# EAGLE library part LECTURE_EXAMPLE (library Ilya_Teach)
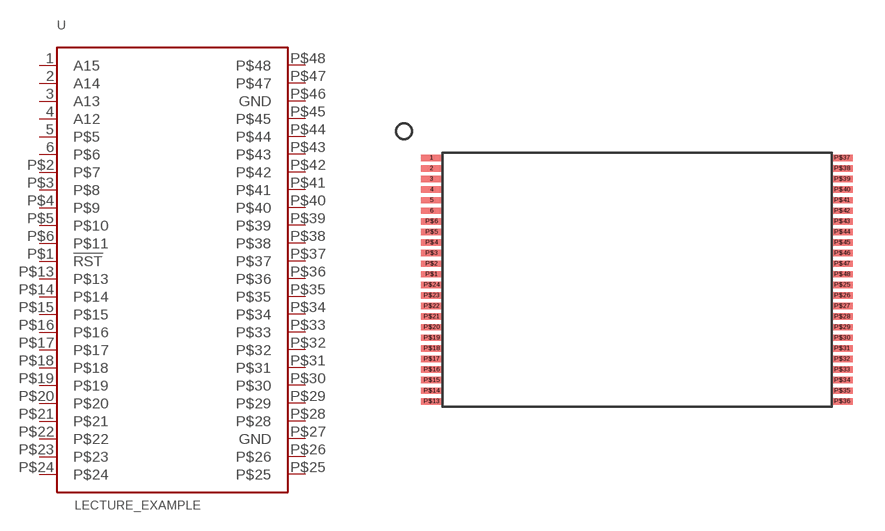
[diagram p19: symbol with the pads of LECTURE_EXAMPLE; footprint LECTURE_EXAMPLE]

Designator prefix -

## LECTURE_EXAMPLEA  [LECTURE_EXAMPLE]
1  A15
2  A14
3  A13
4  A12
5  P$5
6  P$6
P$1  !RST
P$2  P$7
P$3  P$8
P$4  P$9
P$5  P$10
P$6  P$11
P$13  P$13
P$14  P$14
P$15  P$15
P$16  P$16
P$17  P$17
P$18  P$18
P$19  P$19
P$20  P$20
P$21  P$21
P$22  P$22
P$23  P$23
P$24  P$24
P$25  P$25
P$26  P$26
P$27  GND
P$28  P$28
P$29  P$29
P$30  P$30
P$31  P$31
P$32  P$32
P$33  P$33
P$34  P$34
P$35  P$35
P$36  P$36
P$37  P$37
P$38  P$38
P$39  P$39
P$40  P$40
P$41  P$41
P$42  P$42
P$43  P$43
P$44  P$44
P$45  P$45
P$46  GND
P$47  P$47
P$48  P$48

## Footprint LECTURE_EXAMPLE (pad centres in mm)
This is the board I made during lecture.
smd 1 x 0.3: 1 -9.7,5.75; 2 -9.7,5.25; 3 -9.7,4.75; 4 -9.7,4.25; 5 -9.7,3.75; 6 -9.7,3.25; P$1 -9.7,0.25; P$2 -9.7,0.75; P$3 -9.7,1.25; P$4 -9.7,1.75; P$5 -9.7,2.25; P$6 -9.7,2.75; P$13 -9.7,-5.75; P$14 -9.7,-5.25; P$15 -9.7,-4.75; P$16 -9.7,-4.25; P$17 -9.7,-3.75; P$18 -9.7,-3.25; P$19 -9.7,-2.75; P$20 -9.7,-2.25; P$21 -9.7,-1.75; P$22 -9.7,-1.25; P$23 -9.7,-0.75; P$24 -9.7,-0.25; P$25 9.7,-0.25; P$26 9.7,-0.75; P$27 9.7,-1.25; P$28 9.7,-1.75; P$29 9.7,-2.25; P$30 9.7,-2.75; P$31 9.7,-3.25; P$32 9.7,-3.75; P$33 9.7,-4.25; P$34 9.7,-4.75; P$35 9.7,-5.25; P$36 9.7,-5.75; P$37 9.7,5.75; P$38 9.7,5.25; P$39 9.7,4.75; P$40 9.7,4.25; P$41 9.7,3.75; P$42 9.7,3.25; P$43 9.7,2.75; P$44 9.7,2.25; P$45 9.7,1.75; P$46 9.7,1.25; P$47 9.7,0.75; P$48 9.7,0.25